# Altium footprint library Mosfet.PcbLib: 27 footprints (part 1 of 2)
Each footprint in its own frame and in the unit in brackets; x right, y up, seen from the top. Pads: shape width x height; smd on the part's side, far side on the other; paste and mask are expansions set on the pad; w line width, h text height; cw(c..) or ccw(c..) is an arc to the next point about the centre after c.
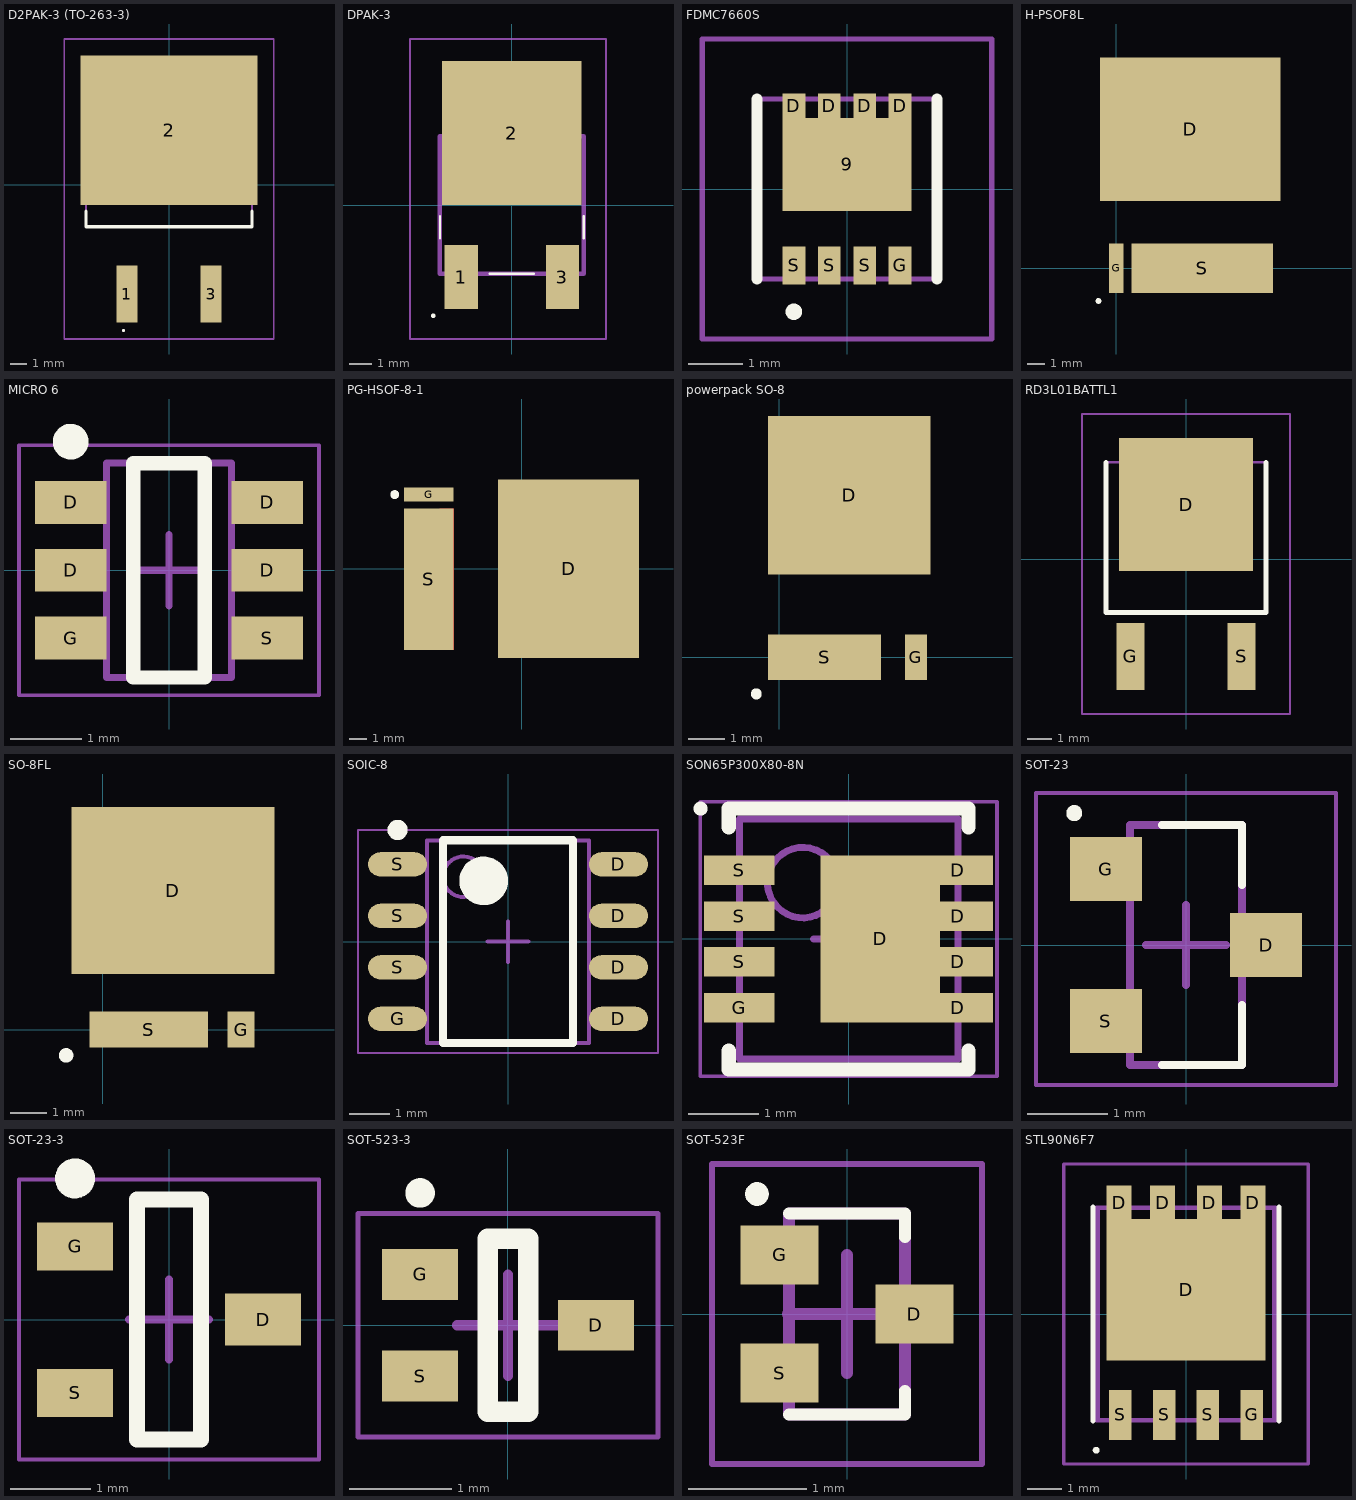
[diagram p0: the footprints below, top view; thin cyan lines are the x and y axes]

## D2PAK-3 (TO-263-3) [mil]
pads (3):
  rect 49.49x135 smd: 1(-100,-260) 3(100,-260)
  rect 420x355 smd: 2(0,130)
Top Overlay:
  lines w3.94: -110.24,-346.46 cw(c-108.27,-346.46) -106.3,-346.46 cw(c-108.27,-346.46) -110.24,-346.46
  lines w7.87: -197.48,-62.99 -197.48,-100 197.48,-100 197.48,-62.99
Mechanical 13:
  lines w3.94: -197.48,-100 -197.48,260 197.48,260 197.48,-100 -197.48,-100
Mechanical 15:
  lines w3.94: -249.37,-366.89 -249.37,346.89 249.37,346.89 249.37,-366.89 -249.37,-366.89

## DPAK-3 [mm]
pads (3):
  rect 1.5x2.9 smd: 1(-2.286,-3.25) 3(2.286,-3.25)
  rect 6.3x6.5 smd: 2(0,3.25)
Top Overlay:
  lines w0.1: -3.25,-1.5 -3.25,-0.5 ; -1,-3.1 1,-3.1 ; 3.25,-1.5 3.25,-0.5 ; -3.6,-5 ccw(c-3.55,-5) -3.5,-5 ccw(c-3.55,-5) -3.6,-5
Mechanical 13:
  lines w0.2: -3.25,-3.1 -3.25,3.1 3.25,3.1 3.25,-3.1 -3.25,-3.1
Mechanical 15:
  lines w0.1: -4.6,-6.05 -4.6,7.5 4.25,7.5 4.25,-6.05 -4.6,-6.05
3D body "STD130N6F7.stp": height 2.5, standoff 0, extent -3.25,-4.55 3.25,5.87

## FDMC7660S [mm]
pads (9):
  rect 2.37x1.7 smd: 9(0,0.45)
  rect 0.42x0.45 smd: D(-0.975,1.525) D(-0.325,1.525) D(0.325,1.525) D(0.975,1.525)
  rect 0.42x0.7 smd: G(0.975,-1.4) S(-0.975,-1.4) S(-0.325,-1.4) S(0.325,-1.4)
Top Overlay:
  lines w0.2: -1.65,-1.65 -1.65,1.65 ; 1.65,-1.65 1.65,1.65 ; -0.975,-2.3 ccw(c-0.975,-2.25) -0.975,-2.2 ; -0.975,-2.3 cw(c-0.975,-2.25) -0.975,-2.2 ; -0.975,-2.3 ccw(c-0.975,-2.25) -0.975,-2.2
Mechanical 13:
  lines w0.1: -1.65,-1.65 -1.65,1.65 1.65,1.65 1.65,-1.65 -1.65,-1.65
Mechanical 15:
  lines w0.1: -2.65,-2.75 -2.65,2.75 2.65,2.75 2.65,-2.75 -2.65,-2.75
3D body "FDMC7660S.stp": height 1.2, standoff 0, extent -1.65,-1.708 1.65,1.708

## H-PSOF8L [mm]
pads (3):
  rect 10.2x8.1 smd: D(4.175,7.83)
  rect 0.8x2.8 smd: G(0,0)
  rect 8x2.8 smd: S(4.85,0)
Top Overlay:
  circle w0.254: c-1,-1.85 r0.035
3D body "User Library-H-PSOF-8-1.sldprt": height 2.3, standoff 0, extent -0.733,-0.478 9.167,11.197

## MICRO 6 [mm] "SOT23, 6-Leads, Body 2,90x2,80mm, Pitch 0,95mm, IPC Medium Density"
height 1.3
pads (6):
  rect 1x0.6 smd: D(-1.375,0) D(-1.375,0.95) D(1.375,0) D(1.375,0.95) G(-1.375,-0.95) S(1.375,-0.95)
Top Overlay:
  circle w0.25: c-1.375,1.8 r0.125
  lines w0.2: -0.5,-1.5 -0.5,1.5 0.5,1.5 0.5,-1.5 -0.5,-1.5
Top Courtyard:
  lines w0.05: -2.1,-1.75 2.1,-1.75 2.1,1.75 -2.1,1.75 -2.1,-1.75
  lines w0.1: -0.5,0 0.5,0 ; 0,-0.5 0,0.5
Top Assembly:
  lines w0.1: -0.875,-1.5 0.875,-1.5 0.875,1.5 -0.875,1.5 -0.875,-1.5
3D body: height 1.3, standoff 0.15, extent -0.875,-1.5 0.875,1.5

## PG-HSOF-8-1 [mm] "HSOF, 8-Leads, Body 11.675x9.9mm, Pitch 1.2mm"
height 2.4
pads (3):
  rect 8x10.125 smd: D(2.65,0)
  rect 2.8x0.8 smd: G(-5.275,4.2)
  rect 2.8x8 smd: S(-5.275,-0.6)
Top Layer:
  region: -4.65,3.4 -4.65,-4.6 -3.85,-4.6 -3.85,3.4
Top Overlay:
  circle w0.25: c-7.199,4.2 r0.125
3D body "User Library-PG-HSOF-8-1.step": height 2.3, standoff 0, extent -5.642,-4.95 6.033,4.95

## powerpack SO-8 [mm]
pads (3):
  rect 4.52x4.42 smd: D(1.955,4.52)
  rect 0.61x1.27 smd: G(3.81,0)
  rect 3.15x1.27 smd: S(1.27,0)
Top Overlay:
  circle w0.254: c-0.635,-1.016 r0.025
3D body "User Library-PowerPAK SO-8 (S).STEP": height 1.04, standoff 0, extent -0.625,0.182 4.525,6.332

## RD3L01BATTL1 [mm]
pads (3):
  rect 5.55x5.5 smd: D(0,2.258)
  rect 1.15x2.77 smd: G(-2.3,-4.007) S(2.3,-4.007)
Top Overlay:
  lines w0.2: -3.3,4.008 -3.3,-2.192 3.3,-2.192 3.3,4.008
Mechanical 13:
  lines w0.1: -3.3,-2.192 -3.3,4.008 3.3,4.008 3.3,-2.192 -3.3,-2.192
Mechanical 15:
  lines w0.1: -4.3,-6.393 -4.3,6.008 4.3,6.008 4.3,-6.393 -4.3,-6.393
3D body "User Library-TO-252-3.STEP": height 2.41, standoff 0, extent -3.35,-5.367 3.35,4.985

## SO-8FL [mm]
pads (3):
  rect 5.6x4.6 smd: D(1.93,3.835)
  rect 0.75x1 smd: G(3.81,0)
  rect 3.277x1 smd: S(1.263,0)
Top Overlay:
  circle w0.254: c-1.016,-0.711 r0.072
3D body "User Library-DFN5x6_SO8FL.STEP": height 1.13, standoff 0, extent -0.644,-0.249 4.506,5.901

## SOIC-8 [mm] "SOIC, 8-Leads, Body 4,90x3,90mm, Pitch 1,27mm, IPC Medium Density"
height 1.75
pads (8):
  oval 1.45x0.6 smd: D(2.725,-1.905) D(2.725,-0.635) D(2.725,0.635) D(2.725,1.905) G(-2.725,-1.905) S(-2.725,-0.635) S(-2.725,0.635) S(-2.725,1.905)
Top Overlay:
  circle w0.6: c-0.6,1.5 r0.3
  circle w0.25: c-2.725,2.755 r0.125
  lines w0.2: -1.6,-2.5 1.6,-2.5 1.6,2.5 -1.6,2.5 -1.6,-2.5
Top Courtyard:
  lines w0.05: -3.7,-2.75 3.7,-2.75 3.7,2.75 -3.7,2.75 -3.7,-2.75
  lines w0.1: -0.5,0 0.5,0 ; 0,-0.5 0,0.5
Top Assembly:
  circle w0.1: c-1.1,1.6 r0.5
  lines w0.1: -2,-2.5 2,-2.5 2,2.5 -2,2.5 -2,-2.5
3D body: height 1.75, standoff 0.1, extent -2,-2.5 2,2.5

## SON65P300X80-8N [mm] "SON, 8-Leads, Body 3,30x3,00mm, Pitch 0,65mm, IPC Medium Density"
height 0.8
pads (9):
  rect 1.7x2.37 smd: D(0.45,0)
  rect 1x0.42 smd: D(1.549,-0.975) D(1.549,-0.325) D(1.549,0.325) D(1.549,0.975) G(-1.549,-0.975) S(-1.549,-0.325) S(-1.549,0.325) S(-1.549,0.975)
Top Overlay:
  circle w0.1: c-2.1,1.85 r0.05
  lines w0.2: -1.7,-1.585 -1.7,-1.85 1.7,-1.85 1.7,-1.585 ; -1.7,1.585 -1.7,1.85 1.7,1.85 1.7,1.585
Mechanical 13:
  circle w0.1: c-0.65,0.8 r0.5
  lines w0.1: -1.55,-1.7 1.55,-1.7 1.55,1.7 -1.55,1.7 -1.55,-1.7
Mechanical 15:
  lines w0.05: -2.105,-1.95 2.105,-1.95 2.105,1.95 -2.105,1.95 -2.105,-1.95
  lines w0.1: -0.5,0 0.5,0 ; 0,-0.5 0,0.5
3D body "FDMC4435BZ.stp": height 0.8, standoff -0.05, extent -1.65,-1.65 1.65,1.65

## SOT-23 [mm] "SOT23, 3-Leads, Body 2.90x2.40mm, Pitch 0.95mm, IPC Medium Density"
height 1.1
pads (3):
  rect 0.9x0.8 smd: D(1,0) G(-1,0.95) S(-1,-0.95)
Top Overlay:
  circle w0.1: c-1.397,1.651 r0.05
  lines w0.1: -0.3,-1.5 0.7,-1.5 0.7,-0.75 ; -0.3,1.5 0.7,1.5 0.7,0.75
Mechanical 13:
  lines w0.1: -0.7,-1.5 -0.7,1.5 0.7,1.5 0.7,-1.5 -0.7,-1.5
Mechanical 15:
  lines w0.05: -1.875,-1.75 -1.875,1.905 1.875,1.905 1.875,-1.75 -1.875,-1.75
  lines w0.1: -0.5,0 0.5,0 ; 0,-0.5 0,0.5
3D body: height 1.1, standoff 0.1, extent -0.7,-1.5 0.7,1.5

## SOT-23-3 [mm] "SOT223, 3-Leads, Body 2,90x2,40mm (avg), Pitch 1,83mm, IPC Medium Density"
height 1.1
pads (3):
  rect 0.95x0.65 smd: D(1.175,0)
  rect 0.95x0.6 smd: G(-1.175,0.915) S(-1.175,-0.915)
Top Overlay:
  circle w0.25: c-1.175,1.765 r0.125
  lines w0.2: -0.4,-1.5 0.4,-1.5 0.4,1.5 -0.4,1.5 -0.4,-1.5
Mechanical 15:
  lines w0.05: -1.875,-1.75 1.875,-1.75 1.875,1.75 -1.875,1.75 -1.875,-1.75
  lines w0.1: -0.5,0 0.5,0 ; 0,-0.5 0,0.5
3D body "2n7002.stp": height 1, standoff 0, extent -1.15,-1.45 1.15,1.45

## SOT-523-3 [mm] "SOT223, 3-Leads, Body 1,60x1,60mm (avg), Pitch 1,00mm, IPC Medium Density"
height 0.68
pads (3):
  rect 0.75x0.5 smd: D(0.865,0) G(-0.865,0.5) S(-0.865,-0.5)
Top Overlay:
  circle w0.25: c-0.865,1.3 r0.02
  lines w0.2: -0.2,-0.85 0.2,-0.85 0.2,0.85 -0.2,0.85 -0.2,-0.85
Mechanical 15:
  lines w0.05: -1.475,-1.1 1.475,-1.1 1.475,1.1 -1.475,1.1 -1.475,-1.1
  lines w0.1: -0.5,0 0.5,0 ; 0,-0.5 0,0.5
3D body: height 0.68, standoff 0.05, extent -0.49,-0.85 0.49,0.85

## SOT-523F [mm] "SOT23, 3-Leads, Body 1.60x1.60mm, Pitch 0.50mm, IPC Medium Density"
height 0.78
pads (3):
  rect 0.66x0.5 smd: D(0.57,0) G(-0.57,0.5) S(-0.57,-0.5)
Top Overlay:
  circle w0.1: c-0.762,1.016 r0.05
  lines w0.1: -0.49,-0.85 0.49,-0.85 0.49,-0.65 ; -0.49,0.85 0.49,0.85 0.49,0.65
Mechanical 13:
  lines w0.1: -0.49,-0.85 -0.49,0.85 0.49,0.85 0.49,-0.85 -0.49,-0.85
Mechanical 15:
  lines w0.05: -1.143,-1.27 -1.143,1.27 1.143,1.27 1.143,-1.27 -1.143,-1.27
  lines w0.1: -0.5,0 0.5,0 ; 0,-0.5 0,0.5
3D body: height 0.78, standoff 0.04, extent -0.49,-0.85 0.49,0.85

## STL90N6F7 [mm]
pads (9):
  rect 0.725x1 smd: D(-1.938,3.225) D(-0.675,3.225) D(0.675,3.225) D(1.938,3.225)
  rect 4.6x4.1 smd: D(0,0.7)
  rect 0.65x1.45 smd: G(1.905,-2.925) S(-1.905,-2.925) S(-0.635,-2.925) S(0.635,-2.925)
Top Overlay:
  lines w0.1: -2.605,-4 ccw(c-2.605,-3.95) -2.605,-3.9 ccw(c-2.605,-3.95) -2.605,-4
  lines w0.15: -2.7,-3.1 -2.7,3.1 ; 2.7,-3.1 2.7,3.1
Mechanical 13:
  circle w0.1: c0,1.9 r0.5
  lines w0.1: -2.6,-3.1 -2.6,3.1 2.6,3.1 2.6,-3.1 -2.6,-3.1
Mechanical 15:
  lines w0.1: -2.55,-3.063 2.55,-3.063 2.55,3.063 -2.55,3.063 -2.55,-3.063
Bottom Assembly:
  lines w0.1: -3.55,-4.35 3.55,-4.35 3.55,4.35 -3.55,4.35 -3.55,-4.35
3D body "STL110N10F7.STEP": height 1, standoff 0, extent -2.6,-3.075 2.6,3.075